# Altium footprint library CN_DB25_FEM_RA.PcbLib: 1 footprints
Each footprint in its own frame and in the unit in brackets; x right, y up, seen from the top. Pads: shape width x height; smd on the part's side, far side on the other; paste and mask are expansions set on the pad; w line width, h text height; cw(c..) or ccw(c..) is an arc to the next point about the centre after c.
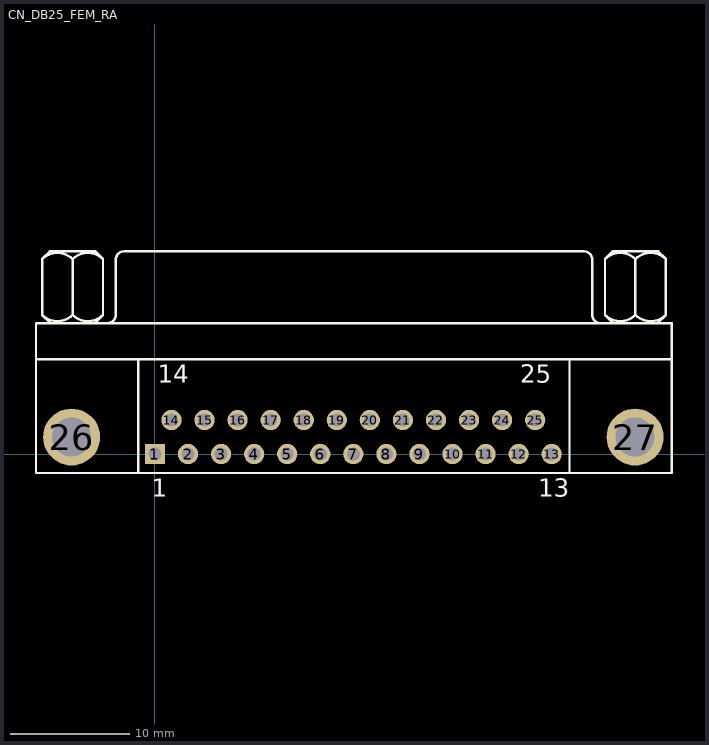
[diagram p0: the footprint, top view; thin cyan lines are the x and y axes]

## CN_DB25_FEM_RA [mm] "Connector; D Subminiature AMPLIMITE 2000; 25 Position; Right Angle"
height 12.75
pads (27):
  rect 1.69x1.69 hole 1.09: 1(0,0)
  round 1.69 hole 1.09: 2(2.761,0) 3(5.522,0) 4(8.283,0) 5(11.044,0) 6(13.805,0) 7(16.566,0) 8(19.327,0) 9(22.088,0) 10(24.849,0) 11(27.61,0) 12(30.371,0) 13(33.132,0) 14(1.381,2.84) 15(4.142,2.84) 16(6.903,2.84) 17(9.664,2.84) 18(12.424,2.84) 19(15.185,2.84) 20(17.946,2.84) 21(20.707,2.84) 22(23.469,2.84) 23(26.23,2.84) 24(28.991,2.84) 25(31.752,2.84)
  round 4.76 hole 3.26: 26(-6.96,1.42) 27(40.092,1.42)
Top Overlay:
  lines w0.2: -9.93,7.92 43.17,7.92 ; -9.418,16.27 -9.418,11.619 -8.783,10.984 ; -9.418,16.285 -8.783,16.92 -4.973,16.92 -4.338,16.285 ; -6.878,11.619 -6.878,16.27 ; -4.973,10.984 -4.338,11.619 -4.338,16.27 ; -4.338,15.006 -4.338,15.218 ; -3.975,10.925 ccw(c-3.975,11.62) -3.28,11.62 -3.28,16.22 ; -3.275,16.225 cw(c-2.58,16.225) -2.58,16.92 35.82,16.92 cw(c35.82,16.225) 36.515,16.225 ; -1.38,-1.58 -1.38,7.92 ; 34.62,-1.58 34.62,7.92 ; 36.52,16.22 36.52,11.62 ccw(c37.215,11.62) 37.215,10.925 ; 37.582,16.27 37.582,11.619 38.217,10.984 ; 37.582,16.285 38.217,16.92 42.027,16.92 42.662,16.285 ; 40.122,11.619 40.122,16.27 ; 42.027,10.984 42.662,11.619 42.662,16.27 ; 42.662,15.006 42.662,15.218 ; -9.93,-1.58 -9.93,10.92 43.17,10.92 43.17,-1.58 -9.93,-1.58
  lines w0.203: -9.42,11.617 ccw(c-8.148,12.889) -6.876,11.617 ; -9.418,16.27 cw(c-8.146,14.998) -6.873,16.27 ; -6.882,16.27 cw(c-5.61,14.998) -4.338,16.27 ; -6.88,11.617 ccw(c-5.608,12.889) -4.336,11.617 ; 37.58,11.617 ccw(c38.852,12.889) 40.124,11.617 ; 37.582,16.27 cw(c38.854,14.998) 40.127,16.27 ; 40.118,16.27 cw(c41.39,14.998) 42.662,16.27 ; 40.12,11.617 ccw(c41.392,12.889) 42.664,11.617
  text "25" at 30.501,5.945 h1.5
  text "14" at 0.256,5.945 h1.5
  text "13" at 32.007,-3.555 h1.5
  text "1" at -0.25,-3.555 h1.5
3D body: height 3.26, standoff -12.55, extent -9.982,-1.788 43.104,17.107